# EAGLE library part ATTINY85 (library Chips)
ATtiny25/45/85 8-Bit microcontroller 0-10MHz, 1.8-5.5V (ATtiny25/45/85V) 0-20MHz, 2.7-5.5V (ATtiny25/45/85)
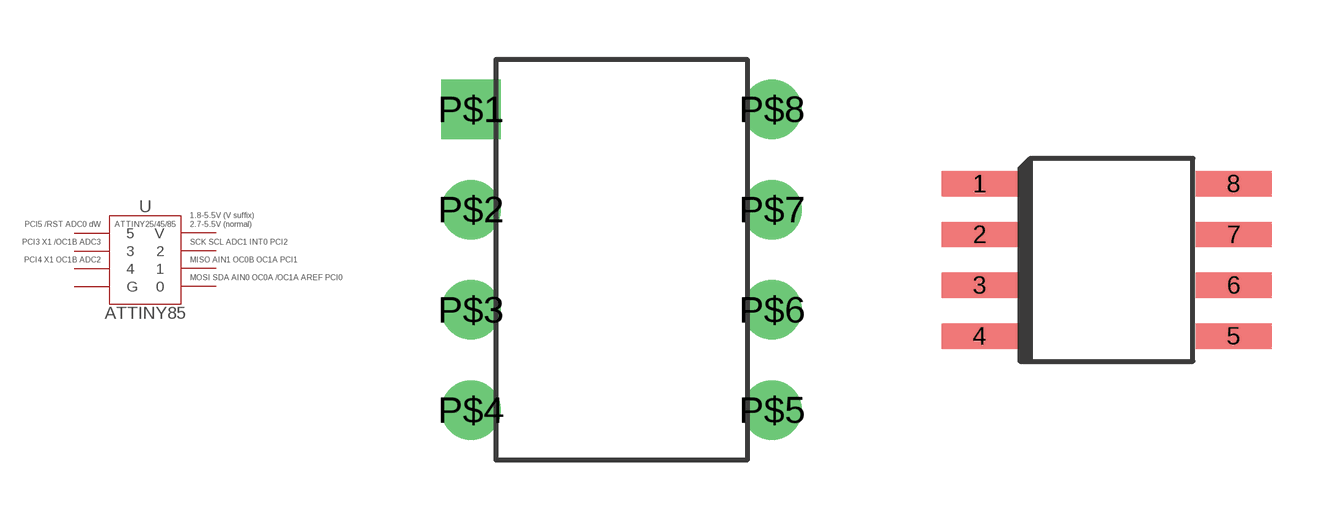
[diagram p21: symbol with the pads of 8DIP; footprints 8DIP, 8SOP_4.4MM]

Designator prefix U

## ATTINY858DIP  [8DIP]
P$1  5
P$2  3
P$3  4
P$4  G
P$5  0
P$6  1
P$7  2
P$8  V

## ATTINY858SO  [8SOP_4.4MM]
1  5
2  3
3  4
4  G
5  0
6  1
7  2
8  V

## Footprint 8DIP (pad centres in mm)
drill 1 square: P$1 -3.81,3.81
drill 1: P$2 -3.81,1.27; P$3 -3.81,-1.27; P$4 -3.81,-3.81; P$5 3.81,-3.81; P$6 3.81,-1.27; P$7 3.81,1.27; P$8 3.81,3.81

## Footprint 8SOP_4.4MM (pad centres in mm)
smd 1.905 x 0.635: 1 -3.175,1.905; 2 -3.175,0.635; 3 -3.175,-0.635; 4 -3.175,-1.905; 5 3.175,-1.905; 6 3.175,-0.635; 7 3.175,0.635; 8 3.175,1.905